# EAGLE library part ATTINY24A (library rc-parts)
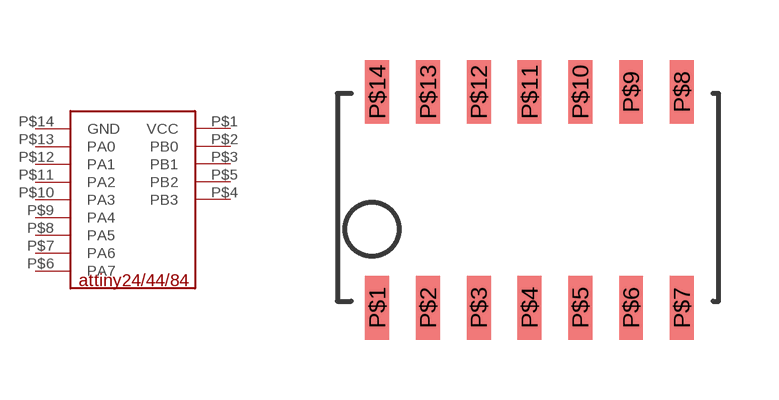
[diagram p0: symbol with the pads of SOIC-14-WIDE; footprint SOIC-14-WIDE]

Designator prefix -

## ATTINY24A (MF: Atmel; MPN: ATTINY24A-SSUR)  [SOIC-14-WIDE]
P$1  VCC
P$2  PB0
P$3  PB1
P$4  PB3
P$5  PB2
P$6  PA7
P$7  PA6
P$8  PA5
P$9  PA4
P$10  PA3
P$11  PA2
P$12  PA1
P$13  PA0
P$14  GND

## Footprint SOIC-14-WIDE (pad centres in mm)
http://www.atmel.com/images/atmel-8826-seeprom-pcb-mounting-guidelines-surface-mount-packages-applicationnote.pdf
smd 0.6 x 1.6: P$1 -3.81,-2.7; P$2 -2.54,-2.7; P$3 -1.27,-2.7; P$4 0,-2.7; P$5 1.27,-2.7; P$6 2.54,-2.7; P$7 3.81,-2.7; P$8 3.81,2.7; P$9 2.54,2.7; P$10 1.27,2.7; P$11 0,2.7; P$12 -1.27,2.7; P$13 -2.54,2.7; P$14 -3.81,2.7